# Altium schematic symbol library Microver.SchLib: 988 symbols (part 9 of 17)
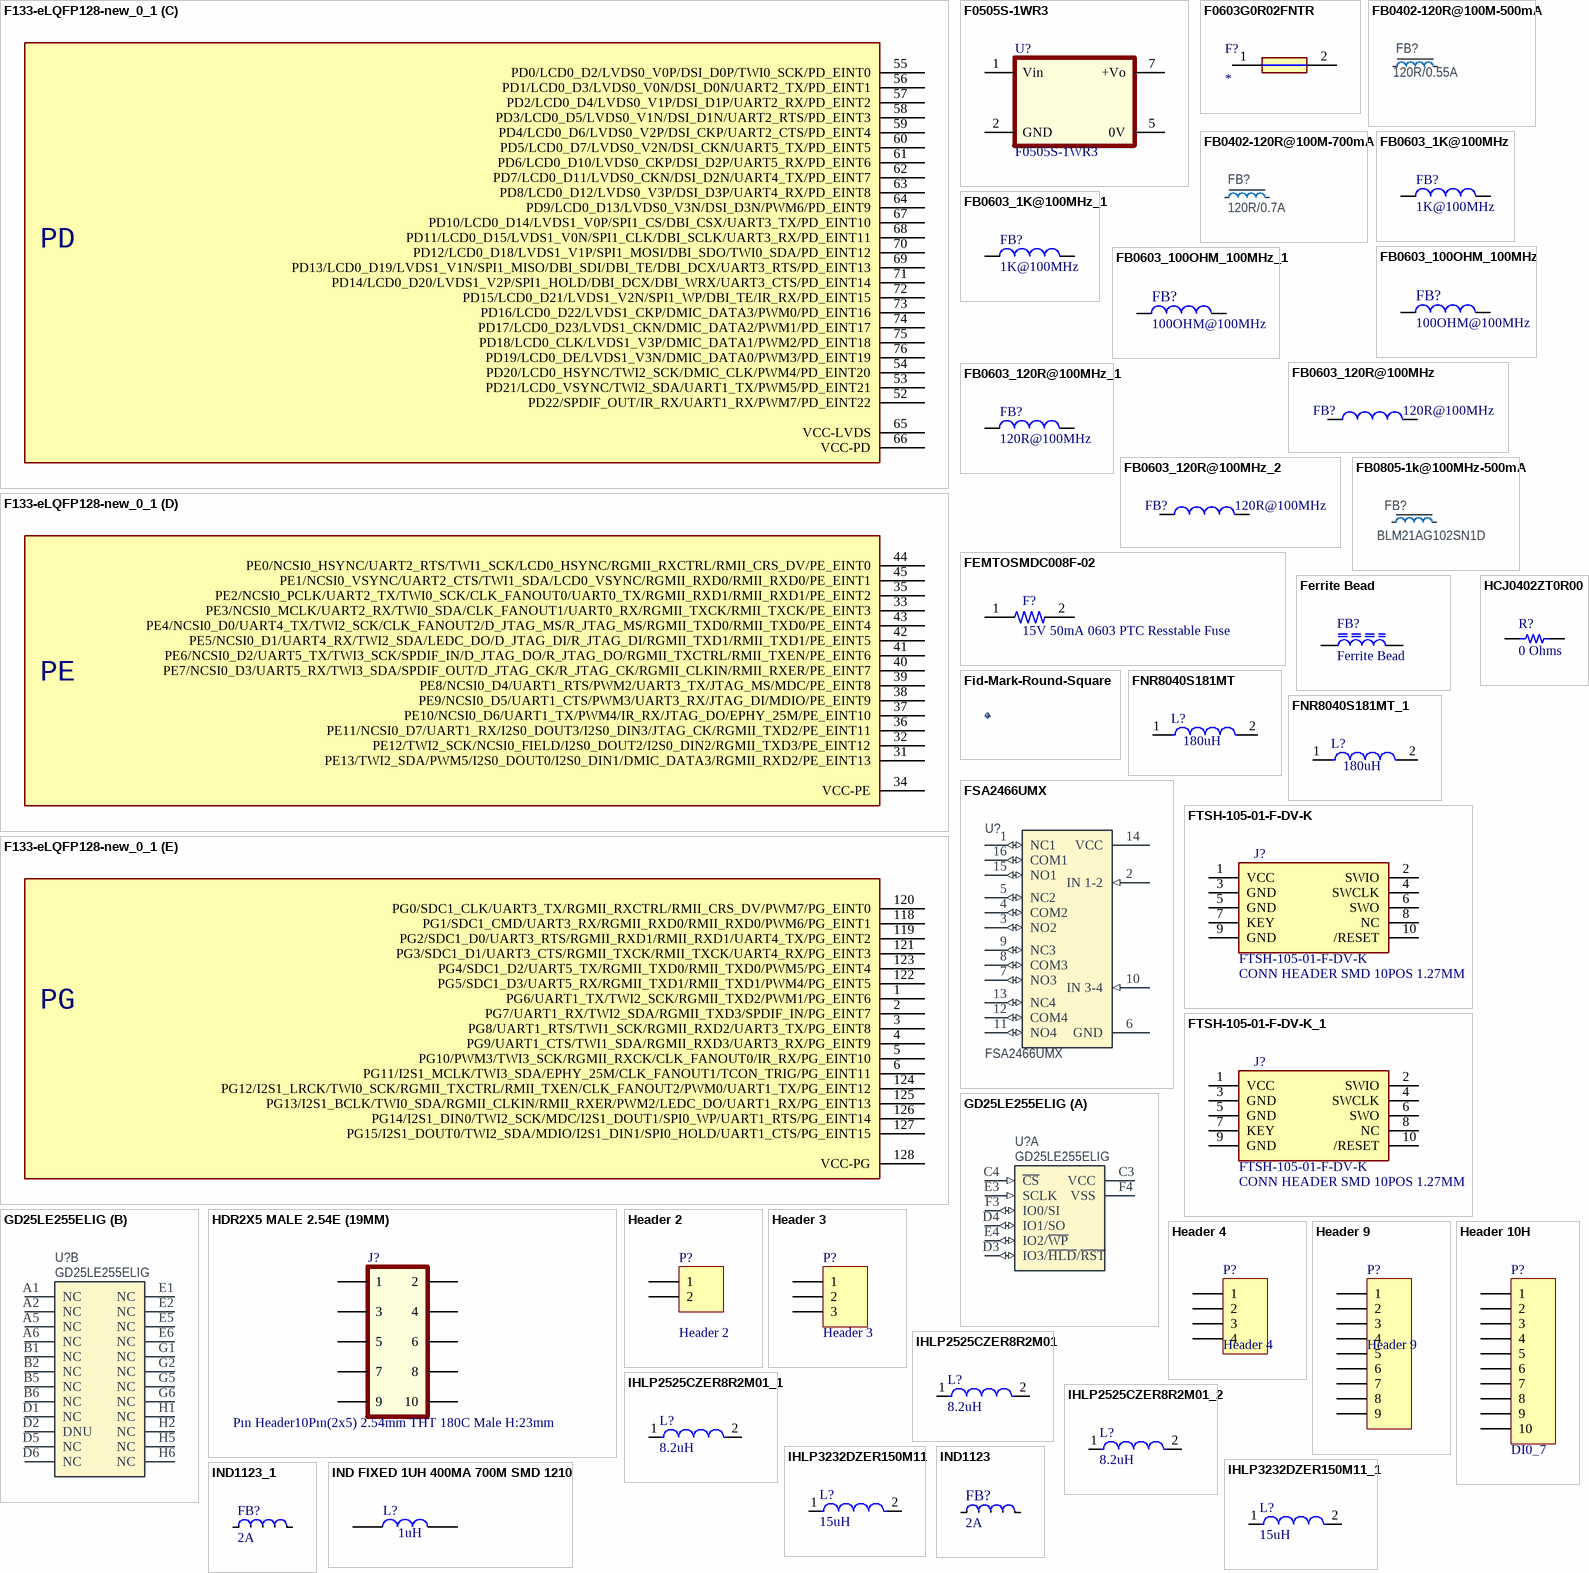
[diagram p37: symbols F133-eLQFP128-new_0_1 to IND FIXED 1UH 400MA 700M SMD 1210]

## Fid-Mark-Round-Square
designator Fid?, comment Fiducial mark  (value not drawn)
Part Number: Fid-Mark-Round-Square; Manufacturer: N.A.; Part number NEMS: 100500075; Value: N.A.; Pad Count: 1; Component Status: Active; System: Connector; Manufacturer Part Number: N.A.; LatestRevisionDate: 2017-01-30; Published: 2009-12-12; Note: N.A.; Artikkelnr Noca: N.A.; Footprint Doc: Fiducial; Part number IPS: N.A.; ComponentLink1URL: N.A.; ComponentLink1Description: Datasheet; ComponentLink2URL: N.A.; ComponentLink2Description: Supplier link; HelpURL: N.A.; Supplier 1: N.A.; Supplier Part Number 1: N.A.; Supplier 2: N.A.; Supplier Part Number 2: N.A.; Author: rsk; Component Class: Connectors; PartId: 100500075; Part number Norautron: N.A.
footprint Fiducial_Round-Square

## FNR8040S181MT
designator L?, comment value 180uH  (hidden comment: 830mA 180uH ±20% SMD,8x8mm Power Inductors ROHS)
Manufacturer Part Number: FNR8040S181MT; Order Code: LCSC: C168147; LCSC Manufacturer Part Number: FNR8040S181MT; LCSC Part Number: C168147
footprint IND-SMD_L8.0-W8.0
pins: 1, 2

## FNR8040S181MT_1
designator L?, comment value 180uH  (hidden comment: 830mA 180uH ±20% SMD,8x8mm Power Inductors ROHS)
Manufacturer Part Number: FNR8040S181MT; Order Code: LCSC: C168147; LCSC Manufacturer Part Number: FNR8040S181MT; LCSC Part Number: C168147
footprint IND-SMD_L8.0-W8.0
pins: 1, 2

## FSA2466UMX
designator U?
Data / Audio Low-Voltage Dual DPDT Analog Switch; Manufacturer: ON Semiconductor; Part number IPS: 00000009986; Part number Norautron: 26500608; Part number NEMS: 101900422; Note: N.A.; Artikkelnr Noca: 15070069; Pad Count: 16; Component Status: Active; Part Number: FSA2466UMX; Manufacturer Part Number: FSA2466UMX; ComponentLink1URL: N.A.; ComponentLink1Description: Datasheet; ComponentLink2URL: N.A.; ComponentLink2Description: Supplier link; HelpURL: https://www.onsemi.com/pub/Collateral/FSA2466-D.PDF; Footprint Doc: UFQFN-16; LatestRevisionDate: 2019-05-15; Published: 2016-05-18; Value: FSA2466UMX; Supplier 1: Digi-Key; Supplier Part Number 1: FSA2466UMXCT-ND; Supplier 2: Mouser; Supplier Part Number 2: 512-FSA2466UMX; Component Class: Misc_ICs; PartId: 101900422; Author: rsk
footprint XQFN40P180X260X50-16N
pins: 1 NC1 (io), 2 IN 1-2 (in), 3 NO2 (io), 4 COM2 (io), 5 NC2 (io), 6 GND (power), 7 NO3 (io), 8 COM3 (io), 9 NC3 (io), 10 IN 3-4 (in), 11 NO4 (io), 12 COM4 (io), 13 NC4 (io), 14 VCC (power), 15 NO1 (io), 16 COM1 (io)
1 alternate drawing of the same symbol

## FTSH-105-01-F-DV-K
designator J?, comment CONN HEADER SMD 10POS 1.27MM  Manufacturer Part Number: FTSH-105-01-F-DV-K
Connector Header Surface Mount 10 position 0.050" (1.27mm); Order Code: DIGI: SAM8796-ND
footprint Samtec_0_MFG
pins: 1 VCC, 2 SWIO, 3 GND, 4 SWCLK, 5 GND, 6 SWO, 7 KEY, 8 NC, 9 GND, 10 /RESET

## FTSH-105-01-F-DV-K_1
designator J?, comment CONN HEADER SMD 10POS 1.27MM  Manufacturer Part Number: FTSH-105-01-F-DV-K
Connector Header Surface Mount 10 position 0.050" (1.27mm); Order Code: DIGI: SAM8796-ND
footprint Samtec_0_MFG
pins: 1 VCC, 2 SWIO, 3 GND, 4 SWCLK, 5 GND, 6 SWO, 7 KEY, 8 NC, 9 GND, 10 /RESET

## GD25LE255ELIG
designator U?
Quad Serial Flash, 256Mbit, 133MHz, 1.65V - 2.0V; Manufacturer: GigaDevice; Part number NEMS: 101900759; Note: N.A.; Pad Count: 32; Component Status: Active; Part Number: GD25LE255ELIG; Manufacturer Part Number: GD25LE255ELIG; Footprint Doc: 32-WLSCP; LatestRevisionDate: 2023-01-11; Published: 2023-01-11; Value: GD25LE255ELIG; Artikkelnr Noca: N.A.; Part number IPS: N.A.; ComponentLink1URL: https://www.gigadevice.com/datasheet/gd25le255e/; ComponentLink1Description: Datasheet; ComponentLink2URL: https://no.mouser.com/ProductDetail/GigaDevice/GD25LE255ELIGR?qs=81r%252BiQLm7BRinJH1OgrMdw%3D%3D; ComponentLink2Description: Supplier link; HelpURL: https://www.gigadevice.com/flash-memory/gd25le255e/; Author: rubr; Component Class: Misc_ICs; Part number Norautron: N.A.; PartId: 101900759
footprint BGA32C50P6X8_350X400
part A pins: C3 VCC (power), C4 ~{CS} (in), D3 IO3/~{HLD}/~{RST} (io), D4 IO1/SO (io), E3 SCLK (in), E4 IO2/~{WP} (io), F3 IO0/SI (io), F4 VSS (power)
part B pins: A1 NC, A2 NC, A5 NC, A6 NC, B1 NC, B2 NC, B5 NC, B6 NC, D1 NC, D2 DNU, D5 NC, D6 NC, E1 NC, E2 NC, E5 NC, E6 NC, G1 NC, G2 NC, G5 NC, G6 NC, H1 NC, H2 NC, H5 NC, H6 NC

## HCJ0402ZT0R00
designator R?, comment 0 Ohms
RES 0 OHM JUMPER 1/8W 0402; Part Number: HCJ0402ZT0R00; Manufacturer: Stackpole Electronics Inc; Power (Watts): 0.125W, 1/8W; Value: 0 Ohms; ComponentLink1Description: Datasheet; ComponentLink1URL: https://www.seielect.com/catalog/sei-hcj.pdf; ComponentLink2Description: DigiKey Link; ComponentLink2URL: https://www.digikey.com/en/products/detail/stackpole-electronics-inc/HCJ0402ZT0R00/4357659; Composition: Metal Foil; Device Package: 0402 (1005 Metric); Features: Automotive AEC-Q200; Height - Seated (Max): 0.018" (0.45mm); LastUpdated: 2/9/2024 8:29:49 PM; Lifecycle Status: Active; Minimum Order: 1; Number of Terminations: 2; Operating Temperature: -55°C ~ 155°C; Package / Case: 0402 (1005 Metric); Packaging: TapeAndReel; PartId: 12327; Part Status: Active; Price: 0.07; Ratings: AEC-Q200; Resistance: 0 Ohms; Series: HCJ; Size / Dimension: 0.039" L x 0.020" W (1.00mm x 0.50mm); Supplier 1: DigiKey; Supplier Part Number 1: HCJ0402ZT0R00CT-ND; Supplier Device Package: 0402; Tolerance: Jumper
footprint RES 0402_1005
pins: 1, 2

## HDR2X5 MALE 2.54E (19MM)
designator J?, comment Pın Header10Pın(2x5) 2.54mm THT 180C Male H:23mm
HEADER MALE 2X5POS 2.54MM.PITCH 19MM.HEIGTH; Manufacturer: NA; Code: 3050223; Value: HDR2X5 MALE 2.54E (19MM); Family: HDR; Manufacturer Part Name: Pın Header10Pın(2x5) 2.54mm THT 180C Male H:23mm; Supplier: Piyasa; Supplier No: NA
footprint HDR2X5 M 2.54E 15MMH
pins: 1, 2, 3, 4, 5, 6, 7, 8, 9, 10

## Header 2
designator P?
Header, 2-Pin; LatestRevisionDate: 17-Jul-2002; LatestRevisionNote: Re-released for DXP Platform.; Publisher: Altium Limited
signal-integrity model Connector
footprint MATEK-H7A3-2-Pin-SMT
pins: 1, 2

## Header 3
designator P?
Header, 3-Pin; LatestRevisionDate: 17-Jul-2002; LatestRevisionNote: Re-released for DXP Platform.; Publisher: Altium Limited
footprint HDR1X3 (Connector; Header; 3 Position)
signal-integrity model Connector
footprint MATEK-H7A3-3-Pin-SMT
pins: 1, 2, 3

## Header 4
designator P?
Header, 4-Pin; LatestRevisionDate: 17-Jul-2002; LatestRevisionNote: Re-released for DXP Platform.; Publisher: Altium Limited
signal-integrity model Connector
footprint MATEK-H7A3-4-Pin-SMT
footprint MATEK-H7A3-4-Pin-SMT-ARC
pins: 1, 2, 3, 4

## Header 9
designator P?
Header, 9-Pin; LatestRevisionDate: 17-Jul-2002; LatestRevisionNote: Re-released for DXP Platform.; Publisher: Altium Limited
footprint HDR1X3 (Connector; Header; 3 Position)
signal-integrity model Connector
footprint MATEK-H7A3-9-Pin-SMT
pins: 1, 2, 3, 4, 5, 6, 7, 8, 9

## Header 10H
designator P?, comment DI0_7
Header, 10-Pin, Right Angle; Supplier 1: OZDISAN; Supplier Part Number 1: LZIR-3.81-10POS
footprint MC 1,5/10-G-3,81
signal-integrity model Connector
footprint MATEKSYS-H7A3-10-Pin
footprint MATEKSYS-H7A3-10-Pin - SMT
pins: 1, 2, 3, 4, 5, 6, 7, 8, 9, 10

## IHLP2525CZER8R2M01
designator L?, comment value 8.2uH  (hidden comment: FIXED IND 8.2UH 4A 68 MOHM SMD)
8.2 µH Shielded Molded Inductor 4 A 68mOhm Max Nonstandard; Manufacturer Part Number: IHLP2525CZER8R2M01; Order Code: Digi: 541-1012-2-ND; LCSC Manufacturer Part Number: IHLP2525CZER8R2M01; LCSC Part Number: C506576
footprint Vishay_IHLP-2525CZ-FP_2_413x3_429-3D_3_0_MFG
pins: 1, 2

## IHLP2525CZER8R2M01_1
designator L?, comment value 8.2uH  (hidden comment: FIXED IND 8.2UH 4A 68 MOHM SMD)
8.2 µH Shielded Molded Inductor 4 A 68mOhm Max Nonstandard; Manufacturer Part Number: IHLP2525CZER8R2M01; Order Code: Digi: 541-1012-2-ND; LCSC Manufacturer Part Number: IHLP2525CZER8R2M01; LCSC Part Number: C506576
footprint Vishay_IHLP-2525CZ-FP_2_413x3_429-3D_3_0_MFG
pins: 1, 2

## IHLP2525CZER8R2M01_2
designator L?, comment value 8.2uH  (hidden comment: FIXED IND 8.2UH 4A 68 MOHM SMD)
8.2 µH Shielded Molded Inductor 4 A 68mOhm Max Nonstandard; Manufacturer Part Number: IHLP2525CZER8R2M01; Order Code: Digi: 541-1012-2-ND; LCSC Manufacturer Part Number: IHLP2525CZER8R2M01; LCSC Part Number: C506576
footprint Vishay_IHLP-2525CZ-FP_2_413x3_429-3D_3_0_MFG
pins: 1, 2

## IHLP3232DZER150M11
designator L?, comment value 15uH  (hidden comment: 15 µH Shielded Molded Inductor 4.9 A 65.3mOhm Max Nonstandard)
Manufacturer Part Number: IHLP3232DZER150M11; Order Code: Digi: 541-1347-2-ND; LCSC Manufacturer Part Number: IHLP3232DZER150M11; LCSC Part Number: C845050
footprint Vishay_IHLP-3232DZ-FP_2_413x5_334-3D_4_0_MFG
pins: 1, 2

## IHLP3232DZER150M11_1
designator L?, comment value 15uH  (hidden comment: 15 µH Shielded Molded Inductor 4.9 A 65.3mOhm Max Nonstandard)
Manufacturer Part Number: IHLP3232DZER150M11; Order Code: Digi: 541-1347-2-ND; LCSC Manufacturer Part Number: IHLP3232DZER150M11; LCSC Part Number: C845050
footprint Vishay_IHLP-3232DZ-FP_2_413x5_334-3D_4_0_MFG
pins: 1, 2

## IND1123
designator FB?, comment 2A
FERRITE BEAD 100 OHM 0603 1LN; Manufacturer: TDK; Manufacturer Part Number: MPZ1608Y101BTA00; Tolerance: 25%; Impedance: 100R; DC Resistance (DCR): 40mR; ComponentLink1URL: https://chn-vm-apps.microchip.com/mchprepo/parts/Datasheets/beads_commercial_power_mpz_en.pdf; ComponentLink1Description: Datasheet; Supplier 1: Digi-Key; Supplier Part Number 1: 445-2984-1-ND; RoHS: Yes; Category: Ferrite Beads and Chips; Stock 1: 551; Pricing 1: 1=0,10000, 10=0,07200, 25=0,06480, 50=0,05840, 100=0,04290, 250=0,03120, 500=0,02860, 1000=0,02470 (USD); Mount: Surface Mount; Case/Package: 0603; Case Code (Metric): 1608; Case Code (Imperial): 0603; Core Material: Ferrite; Packaging: Tape and Reel; Package Quantity: 4000; Max DC Current: 2A; Current Rating: 2A; Series: MPZ; Length: 0.063inch; Width: 0.031inch; Height: 0.037inch; RoHS Compliant: Yes; REACH SVHC: No SVHC; ComponentLink2URL: https://datasheet.ciiva.com/46634/beads-commercial-power-mpz-en-46634677.pdf?src-supplier=Digi-Key; ComponentLink2Description: https://datasheet.ciiva.com/46634/beads-commercial-power-mpz-en-46634677.pdf?src-supplier=Digi-Key; ComponentLink3URL: https://datasheet.ciiva.com/48682/beads-commercial-power-mpz-en-48682501.pdf?src-supplier=Avnet; ComponentLink3Description: https://datasheet.ciiva.com/48682/beads-commercial-power-mpz-en-48682501.pdf?src-supplier=Avnet; ComponentLink4URL: https://datasheet.ciiva.com/46634/beads-commercial-power-mpz-en-46634684.pdf?src-supplier=Digi-Key; ComponentLink4Description: https://datasheet.ciiva.com/46634/beads-commercial-power-mpz-en-46634684.pdf?src-supplier=Digi-Key; ComponentLink5URL: https://datasheet.ciiva.com/46634/beads-commercial-power-mpz-en-46634621.pdf?src-supplier=Digi-Key; ComponentLink5Description: https://datasheet.ciiva.com/46634/beads-commercial-power-mpz-en-46634621.pdf?src-supplier=Digi-Key
footprint IND_C_0603 (Chip Inductor 2-Leads, Body 1.6x0.8mm, IPC Medium Density)
pins: 1 S, 2 F
2 alternate drawings of the same symbol

## IND1123_1
designator FB?, comment Current Rating: 2A  (hidden comment: Inductor)
FERRITE BEAD 100 OHM 0603 1LN; Manufacturer: TDK; Manufacturer Part Number: MPZ1608Y101BTA00; Tolerance: 25%; Impedance: 100R; DC Resistance (DCR): 40mR; ComponentLink1URL: https://chn-vm-apps.microchip.com/mchprepo/parts/Datasheets/beads_commercial_power_mpz_en.pdf; ComponentLink1Description: Datasheet; Supplier 1: Digi-Key; Supplier Part Number 1: 445-2984-1-ND; RoHS: Yes; Category: Ferrite Beads and Chips; Stock 1: 551; Pricing 1: 1=0,10000, 10=0,07200, 25=0,06480, 50=0,05840, 100=0,04290, 250=0,03120, 500=0,02860, 1000=0,02470 (USD); Mount: Surface Mount; Case/Package: 0603; Core Material: Ferrite; Case Code (Metric): 1608; Case Code (Imperial): 0603; Packaging: Tape and Reel; Package Quantity: 4000; Max DC Current: 2A; Series: MPZ; Length: 0.063inch; Width: 0.031inch; Height: 0.037inch; REACH SVHC: No SVHC; RoHS Compliant: Yes; ComponentLink2URL: https://datasheet.ciiva.com/46634/beads-commercial-power-mpz-en-46634677.pdf?src-supplier=Digi-Key; ComponentLink2Description: https://datasheet.ciiva.com/46634/beads-commercial-power-mpz-en-46634677.pdf?src-supplier=Digi-Key; ComponentLink3URL: https://datasheet.ciiva.com/48682/beads-commercial-power-mpz-en-48682501.pdf?src-supplier=Avnet; ComponentLink3Description: https://datasheet.ciiva.com/48682/beads-commercial-power-mpz-en-48682501.pdf?src-supplier=Avnet; ComponentLink4URL: https://datasheet.ciiva.com/46634/beads-commercial-power-mpz-en-46634684.pdf?src-supplier=Digi-Key; ComponentLink4Description: https://datasheet.ciiva.com/46634/beads-commercial-power-mpz-en-46634684.pdf?src-supplier=Digi-Key; ComponentLink5URL: https://datasheet.ciiva.com/46634/beads-commercial-power-mpz-en-46634621.pdf?src-supplier=Digi-Key; ComponentLink5Description: https://datasheet.ciiva.com/46634/beads-commercial-power-mpz-en-46634621.pdf?src-supplier=Digi-Key
footprint IND_C_0603 (Chip Inductor 2-Leads, Body 1.6x0.8mm, IPC Medium Density)
pins: 1 S, 2 F
2 alternate drawings of the same symbol

## IND FIXED 1UH 400MA 700M SMD 1210
designator L?, comment 1uH
SIGNAL LINE IND, 1UH,400MA,5%,120MHz, FULL REEL; Product Range:NLV Series; Inductance:1 H; Inductance Tolerance: 5%; High Frequency Inductor Case:1210 [3225 Metric]; Self Resonant Frequency Min:120MHz; DC Resistance Max:0.7ohm ;RoHS Compliant: Yes; Manufacturer: TDK; Manufacturer Part Number: NLV32T-1R0J-PF; Core Material: Ferrite; DC Resistance (DCR): 700mR; Shielding: Unshielded; Test Frequency: 7.96MHz; Q Factor: 30; Supplier 1: Digi-Key; Supplier Part Number 1: 445-1517-1-ND; RoHS: Yes; Category: Fixed Inductors; Stock 1: 174; Pricing 1: 1=0,25000, 10=0,22600, 25=0,19800, 50=0,16980, 100=0,15560, 250=0,14148, 500=0,13300, 1000=0,10187 (USD); Mount: Surface Mount; Case/Package: 1210; Number of Pins: 2; Case Code (Metric): 3225; Case Code (Imperial): 1210; Min Operating Temperature: -40°C; Max Operating Temperature: 105°C; Tolerance: 5%; Inductance: 1uH; Packaging: Tape and Reel; Self Resonant Frequency: 120MHz; Current Rating: 400mA; Max DC Current: 400mA; Package Quantity: 2000; Termination: SMD/SMT; DC Current: 400mA; Series: NLV; Rated Current-Max: 400mA; Length: 3.2mm; Width: 0.079inch; Height: 2.2mm; Depth: 2.7mm; Radiation Hardening: No; RoHS Compliant: Yes; REACH SVHC: No SVHC; Military Standard: Not; Lead Free: Lead Free; ComponentLink1URL: https://datasheet.ciiva.com/36526/1871633-36526065.pdf?src-supplier=Jameco; ComponentLink1Description: https://datasheet.ciiva.com/36526/1871633-36526065.pdf?src-supplier=Jameco; ComponentLink2URL: https://datasheet.ciiva.com/11802/0900766b80814a78-11802198.pdf?src-supplier=RSComponents; ComponentLink2Description: https://datasheet.ciiva.com/11802/0900766b80814a78-11802198.pdf?src-supplier=RSComponents; ComponentLink3URL: https://datasheet.ciiva.com/15160/getdatasheetpartid-127957-15160442.pdf?src-supplier=Verical; ComponentLink3Description: https://datasheet.ciiva.com/15160/getdatasheetpartid-127957-15160442.pdf?src-supplier=Verical; ComponentLink4URL: https://datasheet.ciiva.com/3082/e511-nl-3082240.pdf?src-supplier=Avnet; ComponentLink4Description: https://datasheet.ciiva.com/3082/e511-nl-3082240.pdf?src-supplier=Avnet; ComponentLink5URL: https://datasheet.ciiva.com/28479/1929012-28479734.pdf?src-supplier=Element14; ComponentLink5Description: https://datasheet.ciiva.com/28479/1929012-28479734.pdf?src-supplier=Element14; ComponentLink6URL: https://datasheet.ciiva.com/1042/e511-nl-1042327.pdf?src-supplier=Digi-Key; ComponentLink6Description: https://datasheet.ciiva.com/1042/e511-nl-1042327.pdf?src-supplier=Digi-Key; ComponentLink7URL: https://datasheet.ciiva.com/1042/e511-nl-1042328.pdf?src-supplier=Digi-Key; ComponentLink7Description: https://datasheet.ciiva.com/1042/e511-nl-1042328.pdf?src-supplier=Digi-Key; ComponentLink8URL: https://datasheet.ciiva.com/1042/e511-nl-1042329.pdf?src-supplier=Digi-Key; ComponentLink8Description: https://datasheet.ciiva.com/1042/e511-nl-1042329.pdf?src-supplier=Digi-Key; ComponentLink9URL: https://datasheet.ciiva.com/16209/inductor-commercial-standard-nlv-en-16209578.pdf?src-supplier=Future+Electronics; ComponentLink9Description: https://datasheet.ciiva.com/16209/inductor-commercial-standard-nlv-en-16209578.pdf?src-supplier=Future+Electronics; ComponentLink10URL: https://datasheet.ciiva.com/30155/print-detail-pdf-phplangenpart-nonlv32t-1r0j-pfnreimp-unit-xmhzim-30155739.pdf?src-supplier=Onlinecomponents.com; ComponentLink10Description: https://datasheet.ciiva.com/30155/print-detail-pdf-phplangenpart-nonlv32t-1r0j-pfnreimp-unit-xmhzim-30155739.pdf?src-supplier=Onlinecomponents.com; ComponentLink11URL: https://datasheet.ciiva.com/46385/e511-nl-46385197.pdf?src-supplier=Element14; ComponentLink11Description: https://datasheet.ciiva.com/46385/e511-nl-46385197.pdf?src-supplier=Element14; ComponentLink12URL: https://datasheet.ciiva.com/8045/73621-8045615.pdf?src-supplier=Element14; ComponentLink12Description: https://datasheet.ciiva.com/8045/73621-8045615.pdf?src-supplier=Element14
footprint F1210N (Chip Inductor, Body 3.2x2.5mm, IPC Medium Density)
pins: 1, 2

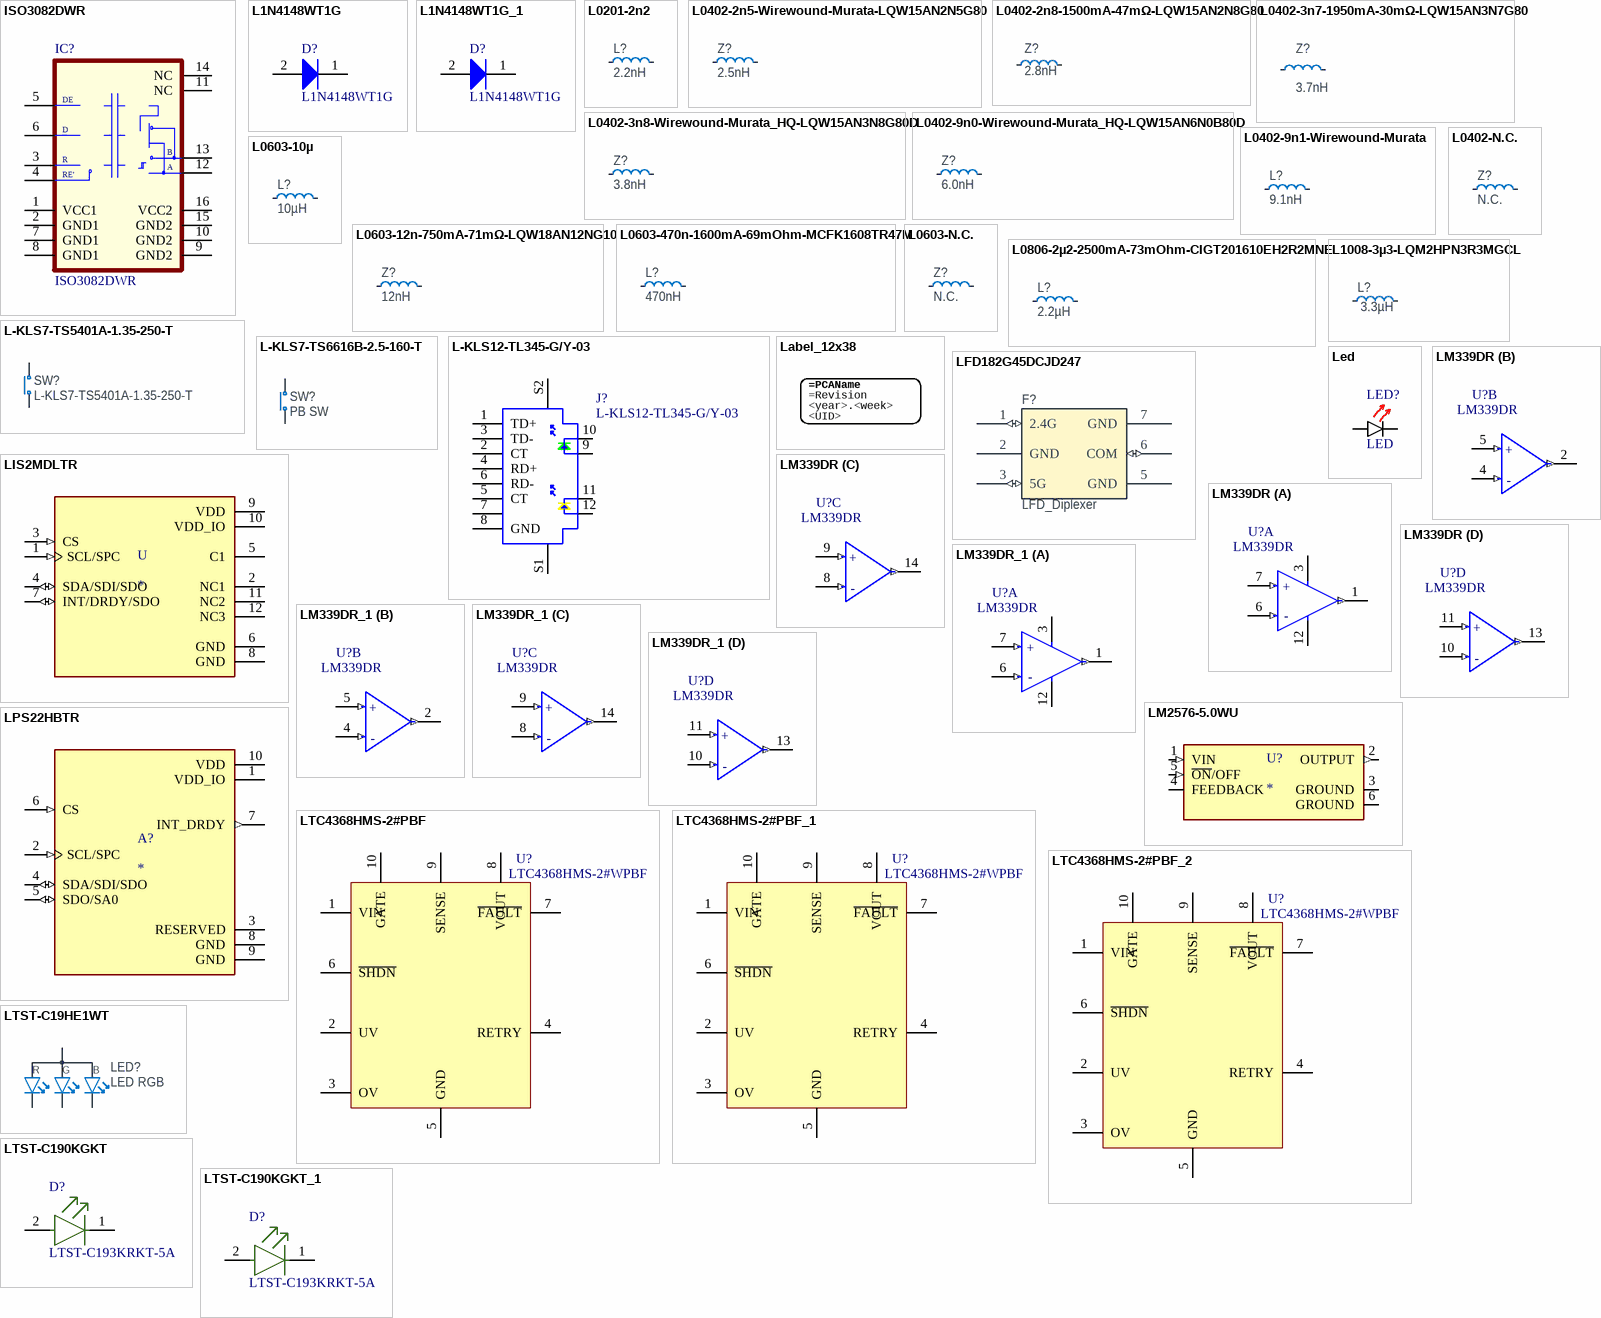
[diagram p15: symbols ISO3082DWR to LTST-C190KGKT_1]

## ISO3082DWR
designator IC?
IC TXRX ISO ISO3082DWR RS422/485 2.5KV 3CH 200KBPS 16SOIC; Manufacturer: TEXAS; Code: 3000004; Family: IC; Manufacturer Part Name: ISO3082DWR; Supplier: Digikey; Supplier No: 296-37891-6-ND; Package Reference: 16-SOIC; Value: ISO3082DWR
footprint SOIC127P1030-16N (SOIC, 16-Leads, Body 10.3x7.5mm, Pitch 1.27mm, IPC Medium Density)
footprint Model Name (Footprint not found)
pins: 1 VCC1 (power), 2 GND1 (power), 3 R, 4 ~{RE}, 5 DE, 6 D, 7 GND1 (power), 8 GND1 (power), 9 GND2 (power), 10 GND2 (power), 11 NC, 12 A, 13 B, 14 NC, 15 GND2 (power), 16 VCC2 (power)
text: RE'

## L1N4148WT1G
designator D?, comment Manufacturer Part Number: L1N4148WT1G  (hidden comment: 100V 425mW Single 1.25V 4ns 200mA SOD-123 Switching Diode ROHS)
Order Code: LCSC: C78089; LCSC Manufacturer Part Number: L1N4148WT1G; LCSC Part Number: C78089
footprint SOD-123_L2.8-W1.8-LS3.7-RD
pins: 1 K, 2 A

## L1N4148WT1G_1
designator D?, comment Manufacturer Part Number: L1N4148WT1G  (hidden comment: 100V 425mW Single 1.25V 4ns 200mA SOD-123 Switching Diode ROHS)
Order Code: LCSC: C78089; LCSC Manufacturer Part Number: L1N4148WT1G; LCSC Part Number: C78089
footprint SOD-123_L2.8-W1.8-LS3.7-RD
pins: 1 K, 2 A

## L0201-2n2
designator L?, comment 2.2nH
Chip Inductor; Part Number: L0201-2n2; Part number NEMS: 100300017; Pad Count: 2; Artikkelnr Noca: N.A.; Note: High frequency chip inductor ±5%; Component Status: Active; Footprint Doc: 0201; Value: 2.2nH; Component Class: Inductors; Author: rsk; ComponentLink1Description: Datasheet; ComponentLink1URL: N.A.; ComponentLink2Description: Supplier link; ComponentLink2URL: N.A.; HelpURL: N.A.; LatestRevisionDate: 2013-04-10; Manufacturer: N.A.; Manufacturer Part Number: N.A.; PartId: 100300017; Part number IPS: N.A.; Part number Norautron: N.A.; Published: 2013-04-10; Supplier 1: N.A.; Supplier 2: N.A.; Supplier Part Number 1: N.A.; Supplier Part Number 2: N.A.
footprint INDC0603X03L_C
pins: 1, 2

## L0402-2n5-Wirewound-Murata-LQW15AN2N5G80
designator Z?, comment 2.5nH
Inductor, 2100mA, ±2%, 30mΩ, Q=30; Part Number: L0402-2n5-Wirewound-Murata-LQW15AN2N5G80; Manufacturer: Murata; Manufacturer Part Number: LQW15AN2N5G80D; Part number NEMS: 100300417; Pad Count: 2; Note: -55°C ~ 125°C; Artikkelnr Noca: N.A.; Component Status: Active; Component Class: Inductors; Author: masi; ComponentLink1URL: https://www.murata.com/products/productdetail?partno=LQW15AN2N5G80%23; ComponentLink1Description: Datasheet; ComponentLink2URL: N.A.; ComponentLink2Description: Supplier link; HelpURL: https://search.murata.co.jp/Ceramy/image/img/P02/JELF243A-0100.pdf; Footprint Doc: 0402; LatestRevisionDate: 2022-08-18; Published: 2022-08-18; Value: 2.5nH; Supplier 1: Digi-Key; Supplier Part Number 1: LQW15AN2N5G80D-ND; Supplier 2: Mouser; Supplier Part Number 2: 81-LQW15AN2N5G80D; Part number IPS: N.A.; Part number Norautron: N.A.; PartId: 100300417
footprint INDC1005X04L_WW
footprint C1608X06L-C1005X04M (Chip Capacitor, 2-Leads, Body 1.6x0.8mm, IPC High Density)
pins: 1, 2

## L0402-2n8-1500mA-47mΩ-LQW15AN2N8G80
designator Z?, comment 2.8nH
Inductor, 1500mA, ±2%, 47mΩ, Q=27; Part Number: L0402-2n8-1500mA-47mΩ-LQW15AN2N8G80; Manufacturer: Murata; Manufacturer Part Number: LQW15AN2N8G80D; Part number NEMS: 100300422; Component Status: Active; Pad Count: 2; Note: -55°C ~ 125°C; Artikkelnr Noca: N.A.; PartId: 100300422; Component Class: Inductors; Author: rubr; ComponentLink1URL: https://eu.mouser.com/datasheet/2/281/1/JELF243A_0100-1380931.pdf; ComponentLink1Description: Datasheet; ComponentLink2URL: https://eu.mouser.com/ProductDetail/Murata-Electronics/LQW15AN2N8G80D?qs=QzBtWTOodeVWFJcVhx7p6g%3D%3D; ComponentLink2Description: Supplier link; HelpURL: https://www.murata.com/en-us/products/productdetail?partno=LQW15AN2N8G80%23; LatestRevisionDate: 2022-12-16; Published: 2022-12-16; Footprint Doc: 0402; Value: 2.8nH; Supplier 1: Mouser; Supplier Part Number 1: 81-LQW15AN2N8G80D; Supplier 2: N.A.; Supplier Part Number 2: N.A.; Part number IPS: N.A.; Part number Norautron: N.A.
footprint INDC1005X04L_WW
footprint C1608X06L-C1005X04M (Chip Capacitor, 2-Leads, Body 1.6x0.8mm, IPC High Density)
pins: 1, 2

## L0402-3n7-1950mA-30mΩ-LQW15AN3N7G80
designator Z?, comment 3.7nH
Inductor, 1950mA, ±2%, 30mΩ, Q=35; Part Number: L0402-3n7-1950mA-30mΩ-LQW15AN3N7G80; Manufacturer: Murata; Manufacturer Part Number: LQW15AN3N7G80D; Part number NEMS: 100300421; Pad Count: 2; Note: -55°C ~ 125°C; Artikkelnr Noca: N.A.; Component Status: Active; Component Class: Inductors; Author: rubr; ComponentLink1URL: https://eu.mouser.com/datasheet/2/281/1/JELF243A_0100-1380931.pdf; ComponentLink1Description: Datasheet; ComponentLink2URL: https://eu.mouser.com/ProductDetail/Murata-Electronics/LQW15AN3N7G80D?qs=QzBtWTOodeVvBMR8fc6sWg%3D%3D; ComponentLink2Description: Supplier link; HelpURL: https://www.murata.com/en-us/products/productdetail?partno=LQW15AN3N7G80%23; Footprint Doc: 0402; LatestRevisionDate: 2022-12-16; Published: 2022-12-16; Value: 3.7nH; Supplier 1: Mouser; Supplier Part Number 1: 81-LQW15AN3N7G80D; Supplier 2: N.A.; Supplier Part Number 2: N.A.; Part number IPS: N.A.; Part number Norautron: N.A.; PartId: 100300421
footprint INDC1005X04L_WW
footprint C1608X06L-C1005X04M
pins: 1, 2

## L0402-3n8-Wirewound-Murata_HQ-LQW15AN3N8G80D
designator Z?, comment 3.8nH
3.8 nH Unshielded Drum Core, Wirewound Inductor 1.95 A 30mOhm Max 0402 (1005 Metric); Part Number: L0402-3n8-Wirewound-Murata_HQ-LQW15AN3N8G80D; Manufacturer: Murata; Manufacturer Part Number: LQW15AN3N8G80D; Part number NEMS: 100300486; Pad Count: 2; Note: -55°C ~ 125°C; Artikkelnr Noca: N.A.; Component Status: Active; Component Class: Inductors; Author: getr; ComponentLink1URL: https://search.murata.co.jp/Ceramy/image/img/P02/JELF243A-0100.pdf; ComponentLink1Description: Datasheet; ComponentLink2URL: https://www.digikey.no/en/products/detail/murata-electronics/LQW15AN3N8G80D/10699152?s=N4IgTCBcDaIDYEcDuBGArAQwHYGYsA4BxfABhAF0BfIA; ComponentLink2Description: Supplier link; HelpURL: https://www.murata.com/en-eu/products/productdetail?partno=LQW15AN3N8G80%23; Footprint Doc: 0402; LatestRevisionDate: 2023-10-30; Published: 2023-10-30; Value: 3.8nH; Supplier 1: Digi-Key; Supplier Part Number 1: 490-LQW15AN3N8G80DTR-ND; Supplier 2: N.A.; Supplier Part Number 2: N.A.; Part number IPS: N.A.; Part number Norautron: N.A.; PartId: 100300486
footprint INDC1005X04L_WW
footprint C1608X06L-C1005X04M (Chip Capacitor, 2-Leads, Body 1.6x0.8mm, IPC High Density)
pins: 1, 2

## L0402-9n0-Wirewound-Murata_HQ-LQW15AN6N0B80D
designator Z?, comment 6.0nH
6 nH Unshielded Drum Core, Wirewound Inductor 1.6 A 56mOhm Max 0402 (1005 Metric); Part Number: L0402-9n0-Wirewound-Murata_HQ-LQW15AN6N0B80D; Manufacturer: Murata; Manufacturer Part Number: LQW15AN6N0B80D; Part number NEMS: 100300487; Pad Count: 2; Note: -55°C ~ 125°C; Artikkelnr Noca: N.A.; Component Status: Active; Component Class: Inductors; Author: getr; ComponentLink1URL: https://search.murata.co.jp/Ceramy/image/img/P02/JELF243A-0100.pdf; ComponentLink1Description: Datasheet; ComponentLink2URL: https://www.digikey.no/en/products/detail/murata-electronics/LQW15AN6N0B80D/4905956?s=N4IgTCBcDaIDYEcDuBGArAQwHYDYsAYAjADnxAF0BfIA; ComponentLink2Description: Supplier link; HelpURL: https://www.murata.com/en-eu/products/productdetail?partno=LQW15AN6N0B80%23; Footprint Doc: 0402; LatestRevisionDate: 2023-10-30; Published: 2023-10-30; Value: 6.0nH; Supplier 1: Digi-Key; Supplier Part Number 1: 490-17896-1-ND; Supplier 2: N.A.; Supplier Part Number 2: N.A.; Part number IPS: N.A.; Part number Norautron: N.A.; PartId: 100300487
footprint INDC1005X04L_WW
footprint C1608X06L-C1005X04M (Chip Capacitor, 2-Leads, Body 1.6x0.8mm, IPC High Density)
pins: 1, 2

## L0402-9n1-Wirewound-Murata
designator L?, comment 9.1nH
Inductor, 540mA, ±2%, 140mΩ, Q=25; Part Number: L0402-9n1-Wirewound-Murata; Manufacturer: Murata; Manufacturer Part Number: LQW15AN9N1G00; Part number IPS: 00000002497; Part number NEMS: 100300357; Note: -55°C ~ 125°C; Artikkelnr Noca: N.A.; Pad Count: 2; Component Status: Active; ComponentLink1URL: https://search.murata.co.jp/Ceramy/image/img/P02/JELF243A-0050.pdf; ComponentLink1Description: Datasheet; ComponentLink2URL: N.A.; ComponentLink2Description: Supplier link; HelpURL: https://psearch.en.murata.com/inductor/product/LQW15AN9N1G00%23.html; Footprint Doc: 0402; LatestRevisionDate: 2019-04-16; Published: 2019-04-16; Value: 9.1nH; Supplier 1: Digi-Key; Supplier Part Number 1: 490-6854-1-ND; Supplier 2: N.A.; Supplier Part Number 2: N.A.; PartId: 100300357; Component Class: Inductors; Author: rsk; Part number Norautron: N.A.
footprint INDC1005X04L_WW
pins: 1, 2

## L0402-N.C.
designator Z?, comment N.C.
Not mounted; Part Number: L0402-N.C.; Manufacturer: N.A.; Part number NEMS: 100300037; Pad Count: 2; Assembly: Not mounted; Component Status: Active; Component Class: Inductors; Author: rsk; Manufacturer Part Number: N.A.; ComponentLink1URL: N.A.; ComponentLink1Description: Datasheet; ComponentLink2URL: N.A.; ComponentLink2Description: Supplier link; HelpURL: N.A.; Footprint Doc: 0402; LatestRevisionDate: 2016-11-24; Published: 2016-11-24; Value: N.C.; Note: N.A.; Supplier 1: N.A.; Supplier Part Number 1: N.A.; Supplier 2: N.A.; Supplier Part Number 2: N.A.; Artikkelnr Noca: N.A.; Part number IPS: N.A.; Part number Norautron: N.A.; PartId: 100300037
footprint C1608X06L-C1005X04M
pins: 1, 2

## L0603-10µ
designator L?, comment 10µH
Inductor, 80mA, ±10%; Part Number: L0603-10µ; Manufacturer: Taiyo Yuden; Manufacturer Part Number: LBMF1608T100K; Part number IPS: 00000007794; Part number Norautron: N.A.; Part number NEMS: 100300078; Pad Count: 2; Artikkelnr Noca: 33029314; Note: LBMF1608T100K 10µH 80mA 0603; Component Status: Active; Value: 10µH; Footprint Doc: 0603; Component Class: Inductors; Author: rsk; ComponentLink1Description: Datasheet; ComponentLink1URL: N.A.; ComponentLink2Description: Supplier link; ComponentLink2URL: N.A.; HelpURL: http://www.yuden.co.jp/ut/product/pdf/elb2_e.pdf; LatestRevisionDate: 2012-09-19; PartId: 100300078; Published: 2010-02-24; Supplier 1: Digi-Key; Supplier 2: Farnell; Supplier Part Number 1: 587-1714-1-ND; Supplier Part Number 2: 178-6105
footprint INDC1608X06L
pins: 1, 2

## L0603-12n-750mA-71mΩ-LQW18AN12NG10
designator Z?, comment 12nH
Inductor, 750mA, ±2%, 71mΩ, Q=38; Part Number: L0603-12n-750mA-71mΩ-LQW18AN12NG10; Manufacturer: Murata; Manufacturer Part Number: LQW18AN12NG10; Part number NEMS: 100300414; Pad Count: 2; Note: -55°C ~ 125°C; Artikkelnr Noca: N.A.; Component Status: Active; Component Class: Inductors; Author: rubr; ComponentLink1URL: https://search.murata.co.jp/Ceramy/image/img/P02/JELF243A-0026.pdf; ComponentLink1Description: Datasheet; ComponentLink2URL: N.A.; ComponentLink2Description: Supplier link; HelpURL: https://psearch.en.murata.com/inductor/product/LQW18AN12NG10%23.html; Footprint Doc: 0603; LatestRevisionDate: 2022-02-17; Published: 2022-02-17; Value: 12nH; Supplier 1: Digi-Key; Supplier Part Number 1: 490-6862-1-ND; Supplier 2: Mouser; Supplier Part Number 2: 81-LQW18AN12NG10D; Part number IPS: N.A.; Part number Norautron: N.A.; PartId: 100300414
footprint 0603_C
pins: 1, 2

## L0603-470n-1600mA-69mOhm-MCFK1608TR47M
designator L?, comment 470nH
Inductor, Irms=1.6A, Isat=1.9A, ±20%, DCR=69mΩ; Part Number: L0603-470n-1600mA-69mOhm-MCFK1608TR47M; Manufacturer: Taiyo Yuden; Manufacturer Part Number: MCFK1608TR47M; Part number NEMS: 100300402; Pad Count: 2; Component Status: Active; Note: -40°C ~ 125°C; Artikkelnr Noca: N.A.; Component Class: Inductors; Author: getr; Footprint Doc: 0603; Value: 470nH; PartId: 100300402; ComponentLink1URL: https://ds.yuden.co.jp/TYCOMPAS/ut/detail?pn=MCFK1608TR47M%20&u=M; ComponentLink1Description: Datasheet; ComponentLink2URL: https://www.digikey.com/en/products/detail/taiyo-yuden/MCFK1608TR47M/7100391?s=N4IgTCBcDaILIGEBiBpAjANgAwA4AqASgCwDscIAugL5A; ComponentLink2Description: Supplier link; HelpURL: https://ds.yuden.co.jp/TYCOMPAS/ut/detail?pn=MCFK1608TR47M&u=M; LatestRevisionDate: 2022-09-07; Published: 2021-04-06; Supplier 1: Digi-Key; Supplier Part Number 1: 587-5625-1-ND; Supplier 2: N.A.; Supplier Part Number 2: N.A.; Part number IPS: N.A.; Part number Norautron: N.A.
footprint INDC1608X06L
pins: 1, 2

## L0603-N.C.
designator Z?, comment N.C.
Not mounted; Part Number: L0603-N.C.; Manufacturer: N.A.; Part number NEMS: 100300069; Pad Count: 2; Assembly: Not mounted; Component Status: Active; PartId: 100300069; Component Class: Inductors; Author: rsk; Manufacturer Part Number: N.A.; ComponentLink1URL: N.A.; ComponentLink1Description: Datasheet; ComponentLink2URL: N.A.; ComponentLink2Description: Supplier link; HelpURL: N.A.; Footprint Doc: 0603; LatestRevisionDate: 2016-11-24; Published: 2016-11-24; Value: N.C.; Note: N.A.; Supplier 1: N.A.; Supplier Part Number 1: N.A.; Supplier 2: N.A.; Supplier Part Number 2: N.A.; Artikkelnr Noca: N.A.; Part number IPS: N.A.; Part number Norautron: N.A.
footprint INDC1608X06L_NC
footprint C1608X06L-C1005X04M (Chip Capacitor, 2-Leads, Body 1.6x0.8mm, IPC High Density)
pins: 1, 2

## L0806-2µ2-2500mA-73mOhm-CIGT201610EH2R2MNE
designator L?, comment 2.2µH
Inductor, Irms=2.5A, Isat=2.9A, ±20%, DCR=73mΩ; Part Number: L0806-2µ2-2500mA-73mOhm-CIGT201610EH2R2MNE; Manufacturer: Samsung Electro-Mechanics America; Manufacturer Part Number: CIGT201610EH2R2MNE; Part number Norautron: 26521789; Part number NEMS: 100300400; Pad Count: 2; Component Status: Active; Note: Unshielded Thin Film Inductor; Artikkelnr Noca: N.A.; Component Class: Inductors; Author: rsk; Footprint Doc: 0806; Value: 2.2µH; PartId: 100300400; ComponentLink1URL: https://media.digikey.com/pdf/Data%20Sheets/Samsung%20PDFs/CIGT201610EH2R2MNE_Spec.pdf; ComponentLink1Description: Datasheet; ComponentLink2URL: https://www.digikey.com/en/products/detail/samsung-electro-mechanics/CIGT201610EH2R2MNE/7041223?s=N4IgTCBcDaIMIEkDiAVMAGAjANk%2BgogBJgBKYAsgHL4gC6AvkA; ComponentLink2Description: Supplier link; HelpURL: http://product.samsungsem.com/pi/CIGT201610EH2R2MN.do; LatestRevisionDate: 2022-09-07; Published: 2021-02-03; Supplier 1: Digi-Key; Supplier Part Number 1: 1276-6901-1-ND; Supplier 2: Mouser; Supplier Part Number 2: 187-CIGT201610EH2R2M; Part number IPS: N.A.
footprint INDC2016X10N
pins: 1, 2

## L1008-3µ3-LQM2HPN3R3MGCL
designator L?, comment 3.3µH
Inductor, 1A, ±20%, 200mOhm; Part Number: L1008-3µ3-LQM2HPN3R3MGCL; Manufacturer: Murata; Manufacturer Part Number: LQM2HPN3R3MGCL; Part number NEMS: 100300406; Pad Count: 2; Note: -55°C ~ 125°C; Artikkelnr Noca: N.A.; Component Status: Active; Component Class: Inductors; Author: prbu; ComponentLink1URL: https://www.murata.com/en-sg/products/productdetail?partno=LQM2HPN3R3MGC%23; ComponentLink1Description: Datasheet; ComponentLink2URL: https://www.digikey.com/en/products/detail/murata-electronics/LQM2HPN3R3MGCL/4359129?s=N4IgTCBcDaIDIEUCyYASAFAcgZgEraQHEBhOEAXQF8g; ComponentLink2Description: Supplier link; HelpURL: https://www.murata.com/en-sg/products/productdetail?partno=LQM2HPN3R3MGC%23; Footprint Doc: 1008; LatestRevisionDate: 2022-01-20; Published: 2022-01-20; Value: 3.3µH; Supplier 1: Digi-Key; Supplier Part Number 1: 490-12070-1-ND; Supplier 2: N.A.; Supplier Part Number 2: N.A.; Part number IPS: N.A.; Part number Norautron: N.A.; PartId: 100300406
footprint INDC2520X10N
pins: 1, 2

## L-KLS7-TS5401A-1.35-250-T
designator SW?
Microminiature SMT Switch, Side Actuated; Manufacturer: Cabcon; Part number NEMS: 101500149; Pad Count: 4; Note: Tactile Switch, SPST, SMD, 220gf; Artikkelnr Noca: N.A.; Component Status: Active; Part Number: L-KLS7-TS5401A-1.35-250-T; Component Class: Switches; Author: getr; Manufacturer Part Number: L-KLS7-TS5401A-1.35-250-T; ComponentLink1URL: N.A.; ComponentLink1Description: Datasheet; ComponentLink2URL: N.A.; ComponentLink2Description: Supplier link; HelpURL: N.A.; Footprint Doc: L-KLS7-TS5401A-1.35-250-T; LatestRevisionDate: 2024-08-08; Published: 2024-08-08; Value: L-KLS7-TS5401A-1.35-250-T; Supplier 1: Cabcon; Supplier Part Number 1: L-KLS7-TS5401A-1.35-250-T; Supplier 2: N.A.; Supplier Part Number 2: N.A.; Part number IPS: N.A.; Part number Norautron: N.A.; PartId: 101500149
footprint L-KLS7-TS5401A-1.35-250-T
pins: 1 N.O, 2 COM

## L-KLS7-TS6616B-2.5-160-T
designator SW?, comment PB SW
Tactile Switch, SPNO, SMD, 160gf, 6.2x6.4x2.5mm; Part Number: L-KLS7-TS6616B-2.5-160-T; Manufacturer: KLS; Part number NEMS: 101500133, 101500001; Note: N.A.; Pad Count: 4; Component Status: Active; Manufacturer Part Number: L-KLS7-TS6616B-2.5-160-T; Footprint Doc: L-KLS7-TS6616B-2.5-160-T; LatestRevisionDate: 2021-07-02; Published: 2021-07-02; Value: PB SW; Artikkelnr Noca: N.A.; Part number IPS: N.A.; ComponentLink1URL: N.A.; ComponentLink1Description: Datasheet; ComponentLink2URL: N.A.; ComponentLink2Description: Supplier link; HelpURL: \\hizz\pro\app9717\Datasheet\switches\KLS\L-KLS7-TS6616B-2.5-160-T.pdf; Supplier 1: Cabcon; Supplier Part Number 1: L-KLS7-TS6616B-2.5-160-T; Supplier 2: N.A.; Supplier Part Number 2: N.A.; Author: masi; Component Class: Switches; PartId: 101500133; Part number Norautron: N.A.
footprint L-KLS7-TS6616B-2.5-160-T
pins: 1 N.O, 2 COM

## L-KLS12-TL345-G/Y-03
designator J?
Manufacturer: KLS; Manufacturer Part Number: L-KLS12-TL345-G/Y-03; Supplier 1: OZDISAN
footprint L-KLS12-TL345-G/Y-03 (Connector, 12-Leads, Body 17.27x15.75mm, Pitch 1.016mm)
footprint L-KLS12-TL345-G/Y-03_1 (Connector, 12-Leads, Body 17.27x15.75mm, Pitch 1.016mm)
pins: 1 TD+, 2 CT, 3 TD-, 4 RD+, 5 CT, 6 RD-, 7, 8 GND, 9, 10, 11, 12, S1, S2

## Label_12x38
designator LABEL?, comment 12x38mm  (value not drawn)
PCA version label, stick-on, 12x38mm; Part Number: Label_12x38; Manufacturer: Ellco Etikett; Manufacturer Part Number: 83019; Part number NEMS: 101200031; Component Status: Active; Pad Count: 0; Note: N.A.; Component Class: Mechanicals; Author: getr; ComponentLink1URL: N.A.; ComponentLink1Description: Datasheet; ComponentLink2URL: N.A.; ComponentLink2Description: Supplier link; HelpURL: N.A.; LatestRevisionDate: 2023-08-02; Published: 2023-08-02; Footprint Doc: Label; Value: 12x38mm; Supplier 1: N.A.; Supplier Part Number 1: N.A.; Supplier 2: N.A.; Supplier Part Number 2: N.A.; Artikkelnr Noca: N.A.; Part number IPS: N.A.; Part number Norautron: N.A.; PartId: 101200031
footprint LabelSilk_12x38
text: <year>.<week>; <UID>

## Led
designator LED?, comment LED
Red 640nm LED Indication - Discrete 2.1V Radial; MPN: XLM2MR12D; MF: SunLED; Value: LED RED DIFF 5MM ROUND T-H; Package: Radial; Digi-Key Part Number: XLM2MR12D-ND; Price: 0.16560
footprint 0603_LED
footprint 0805_LED
pins: A, C

## LFD182G45DCJD247
designator F?, comment LFD_Diplexer
Signal Conditioning 2.4GHz and 5GHz Diplexer; Part Number: LFD182G45DCJD247; Manufacturer: Murata; Part number NEMS: 100800026; Pad Count: 6; Value: LFD182G45DCJD247; Note: N.A.; Component Status: Active; Component Class: Filters; Author: hany; Manufacturer Part Number: LFD182G45DCJD247; ComponentLink1URL: https://no.mouser.com/datasheet/2/281/1/LFD182G45DCJD247-2399435.pdf; ComponentLink1Description: Datasheet; ComponentLink2URL: N.A.; ComponentLink2Description: Supplier link; HelpURL: N.A.; Footprint Doc: CAF; LatestRevisionDate: 2021-10-06; Published: 2021-10-06; Supplier 1: Mouser; Supplier Part Number 1: 81-LFD182G45DCJD247; Supplier 2: N.A.; Supplier Part Number 2: N.A.; Artikkelnr Noca: N.A.; Part number IPS: N.A.; Part number Norautron: N.A.; PartId: 100800026
footprint CAF-50P160X80-6N
pins: 1 2.4G (io), 2 GND (power), 3 5G (io), 5 GND (power), 6 COM (io), 7 GND (power)

## LIS2MDLTR
designator U
Magnetoresistive Sensor X, Y, Z Axis 12-LGA _2x2_; MP: LIS2MDLTR; MF: STMicroelectronics; Value: *; SnapEDA_Link: https://www.snapeda.com/parts/LIS2MDLTR/STMicroelectronics/view-part/839420/?ref=snap; Package: WFLGA-12 STMicroelectronics; Digi-Key_Part_Number: 497-17588-1-ND; Digi-Key_Purchase_URL: https://www.digikey.com/product-detail/en/stmicroelectronics/LIS2MDLTR/497-17588-1-ND/7565512?utm_source=snapeda&utm_medium=aggregator&utm_campaign=symbol
footprint PQFN50P200X200X70-12N
pins: 1 SCL/SPC (in), 2 NC1, 3 CS (in), 4 SDA/SDI/SDO (io), 5 C1, 6 GND (power), 7 INT/DRDY/SDO (io), 8 GND (power), 9 VDD (power), 10 VDD_IO (power), 11 NC2, 12 NC3

## LM339DR
designator U?, comment Manufacturer Part Number: LM339DR  (hidden comment: IC COMPARATOR 4 DIFF 14SOIC)
Comparator Differential Open-Collector, Rail-to-Rail 14-SOIC
footprint Texas_Instruments_D0014A_IPC_A
part A pins: 1 1OUT (out), 3 VCC (power), 6 1IN- (in), 7 1IN+ (in), 12 GND (power)
part B pins: 2 2OUT (out), 4 2IN- (in), 5 2IN+ (in)
part C pins: 8 3IN- (in), 9 3IN+ (in), 14 OUT3 (out)
part D pins: 10 4IN- (in), 11 4IN+ (in), 13 OUT4 (out)
part A text: +; -
part B text: +; -
part C text: +; -
part D text: +; -

## LM339DR_1
designator U?, comment Manufacturer Part Number: LM339DR  (hidden comment: IC COMPARATOR 4 DIFF 14SOIC)
Comparator Differential Open-Collector, Rail-to-Rail 14-SOIC
footprint Texas_Instruments_D0014A_IPC_A
part A pins: 1 1OUT (out), 3 VCC (power), 6 1IN- (in), 7 1IN+ (in), 12 GND (power)
part B pins: 2 2OUT (out), 4 2IN- (in), 5 2IN+ (in)
part C pins: 8 3IN- (in), 9 3IN+ (in), 14 OUT3 (out)
part D pins: 10 4IN- (in), 11 4IN+ (in), 13 OUT4 (out)
part A text: +; -
part B text: +; -
part C text: +; -
part D text: +; -

## LM2576-5.0WU
designator U?
Buck Switching Regulator IC Positive Fixed 5V 1 Output 3A TO-263-6, D2PAK (5 Leads + Tab), TO-263BA; MF: Microchip; MP: LM2576-5.0WU; SnapEDA_Link: https://www.snapeda.com/parts/LM2576-5.0WU/Microchip/view-part/?ref=snap; Package: TO-263-5 Micrel; Value: *; Check_prices: https://www.snapeda.com/parts/LM2576-5.0WU/Microchip/view-part/?ref=eda
footprint DPAK6P170_1524X459L254X81N
pins: 1 VIN (in), 2 OUTPUT (out), 3 GROUND (power), 4 FEEDBACK (io), 5 ~{ON}/OFF (in), 6 GROUND (power)

## LPS22HBTR
designator A?
Pressure Sensor 3.77PSI ~ 18.27PSI (26kPa ~ 126kPa) Absolute 24 b 10-WFLGA Exposed Pad; MP: LPS22HBTR; MF: STMicroelectronics; SnapEDA_Link: https://www.snapeda.com/parts/LPS22HBTR/STMicroelectronics/view-part/?ref=snap; Package: WFLGA-10 STMicroelectronics; Check_prices: https://www.snapeda.com/parts/LPS22HBTR/STMicroelectronics/view-part/?ref=eda; Purchase-URL: https://pricing.snapeda.com/search/part/LPS22HBTR/?ref=eda; Price: None; Value: *; Availability: In Stock
footprint PQFN50P200X200X80-10N
pins: 1 VDD_IO (power), 2 SCL/SPC (in), 3 RESERVED, 4 SDA/SDI/SDO (io), 5 SDO/SA0 (io), 6 CS (in), 7 INT_DRDY (out), 8 GND (power), 9 GND (power), 10 VDD (power)

## LTC4368HMS-2#PBF
designator U?, comment P/N: LTC4368HMS-2#WPBF  (hidden comment: ADJ)
IC SURGE SUPPRESSION ADJ 10MSOP; Order Code: DIGI :  161-LTC4368HMS-2#WPBF-ND; Value: ADJ
footprint MSOP10 (10-TFSOP, 10-MSOP (0.118", 3.00mm Width))
pins: 1 VIN, 2 UV, 3 OV, 4 RETRY, 5 GND, 6 ~{SHDN}, 7 ~{FAULT}, 8 VOUT, 9 SENSE, 10 GATE

## LTC4368HMS-2#PBF_1
designator U?, comment P/N: LTC4368HMS-2#WPBF  (hidden comment: ADJ)
IC SURGE SUPPRESSION ADJ 10MSOP; Order Code: DIGI :  161-LTC4368HMS-2#WPBF-ND; Value: ADJ
footprint MSOP10 (10-TFSOP, 10-MSOP (0.118", 3.00mm Width))
pins: 1 VIN, 2 UV, 3 OV, 4 RETRY, 5 GND, 6 ~{SHDN}, 7 ~{FAULT}, 8 VOUT, 9 SENSE, 10 GATE

## LTC4368HMS-2#PBF_2
designator U?, comment P/N: LTC4368HMS-2#WPBF  (hidden comment: ADJ)
IC SURGE SUPPRESSION ADJ 10MSOP; Order Code: DIGI :  161-LTC4368HMS-2#WPBF-ND; Value: ADJ
footprint MSOP10 (10-TFSOP, 10-MSOP (0.118", 3.00mm Width))
pins: 1 VIN, 2 UV, 3 OV, 4 RETRY, 5 GND, 6 ~{SHDN}, 7 ~{FAULT}, 8 VOUT, 9 SENSE, 10 GATE

## LTST-C19HE1WT
designator LED?, comment LED RGB
RGB LED 1.60 mm x 1.60 mm SMD; Part Number: LTST-C19HE1WT; Manufacturer: LITEON; Part number IPS: 00000007798; Part number NEMS: 101400093; Note: N.A.; Pad Count: 4; Component Status: Active; Manufacturer Part Number: LTST-C19HE1WT; LatestRevisionDate: 2016-09-23; Published: 2016-09-23; Value: LED RGB; Artikkelnr Noca: N.A.; Footprint Doc: LED_RGB_0606; ComponentLink1URL: N.A.; ComponentLink1Description: Datasheet; ComponentLink2URL: N.A.; ComponentLink2Description: Supplier link; HelpURL: http://optoelectronics.liteon.com/upload/download/DS22-2008-0044/S_110_LTST-C19HE1WT.pdf; Supplier 1: Digi-Key; Supplier Part Number 1: 160-2162-1-ND; Supplier 2: Mouser; Supplier Part Number 2: 859-LTST-C19HE1WT; Author: rsk; Component Class: Optoelectronics; PartId: 101400093; Part number Norautron: N.A.
footprint LED_RGB_0606
pins: 1 C_RED, 2 C_GREEN, 3 C_BLUE, 4 A
text: R; G; B

## LTST-C190KGKT
designator D?, comment Manufacturer Part Number: LTST-C193KRKT-5A  (hidden comment: LED GREEN CLEAR CHIP SMD)
Green 571nm LED Indication - Discrete 2V 0603 (1608 Metric); Manufacturer: Lite-On Inc.; Order Code: Digi: 160-1830-2-ND; LCSC Part Number: C125094; LCSC Manufacturer Part Number: LTST-C193KRKT-5A
footprint Lite-On_0_MFG_GREEN
pins: 1 C, 2 A

## LTST-C190KGKT_1
designator D?, comment Manufacturer Part Number: LTST-C193KRKT-5A  (hidden comment: LED GREEN CLEAR CHIP SMD)
Green 571nm LED Indication - Discrete 2V 0603 (1608 Metric); Manufacturer: Lite-On Inc.; Order Code: Digi: 160-1830-2-ND; LCSC Part Number: C125094; LCSC Manufacturer Part Number: LTST-C193KRKT-5A
footprint Lite-On_0_MFG_GREEN
pins: 1 C, 2 A

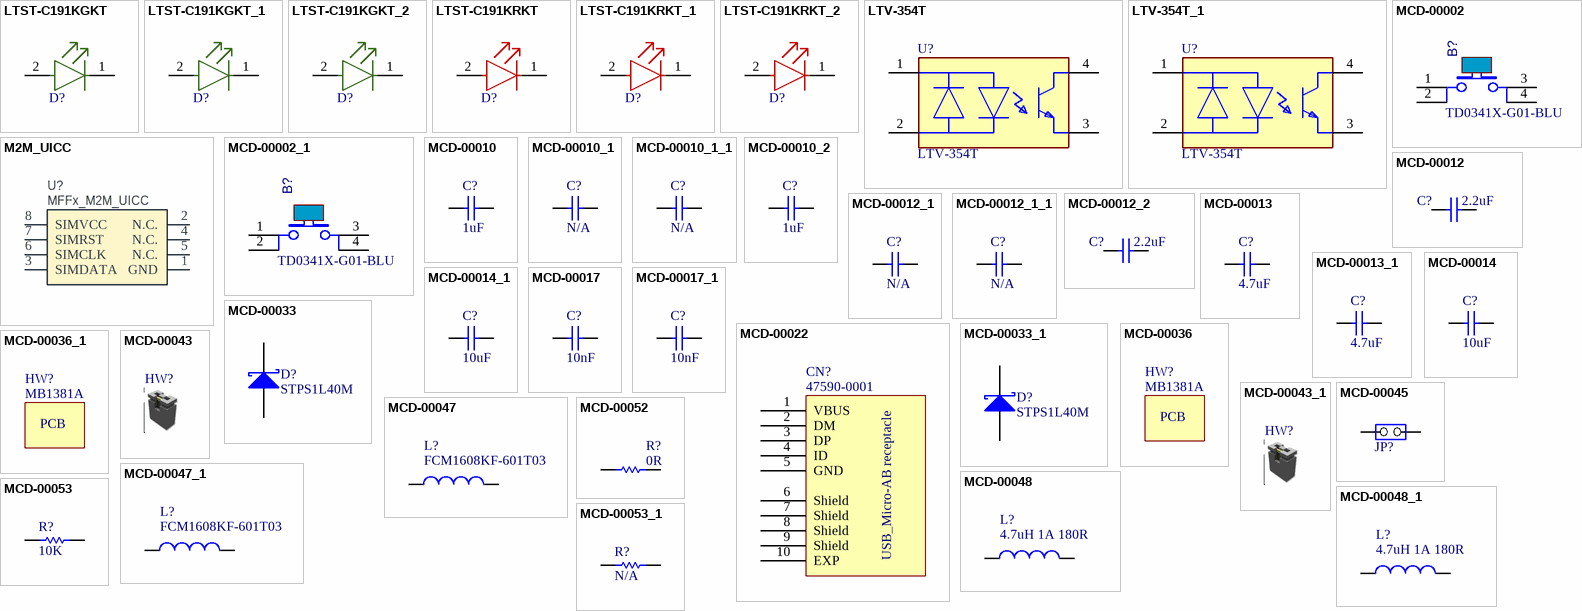
[diagram p16: symbols LTST-C191KGKT to MCD-00053_1]

## LTST-C191KGKT
designator D?, comment LED GREEN CLEAR SMD  (value not drawn)
Green 571nm LED Indication - Discrete 2V 0603 (1608 Metric); Manufacturer Part Number: LTST-C191KGKT; Order Code: Digi: 160-1446-2-ND; LCSC Manufacturer Part Number: LTST-C191KGKT; LCSC Part Number: C125098
footprint Lite-On_GREEN_MFG
pins: 1 C, 2 A

## LTST-C191KGKT_1
designator D?, comment LED GREEN CLEAR SMD  (value not drawn)
Green 571nm LED Indication - Discrete 2V 0603 (1608 Metric); Manufacturer Part Number: LTST-C191KGKT; Order Code: Digi: 160-1446-2-ND; LCSC Manufacturer Part Number: LTST-C191KGKT; LCSC Part Number: C125098
footprint Lite-On_GREEN_MFG
pins: 1 C, 2 A

## LTST-C191KGKT_2
designator D?, comment LED GREEN CLEAR SMD  (value not drawn)
Green 571nm LED Indication - Discrete 2V 0603 (1608 Metric); Manufacturer Part Number: LTST-C191KGKT; Order Code: Digi: 160-1446-2-ND; LCSC Manufacturer Part Number: LTST-C191KGKT; LCSC Part Number: C125098
footprint Lite-On_GREEN_MFG
pins: 1 C, 2 A

## LTST-C191KRKT
designator D?, comment LED RED CLEAR SMD  (value not drawn)
Red 631nm LED Indication - Discrete 2V 0603 (1608 Metric); Manufacturer Part Number: LTST-C191KRKT; Order Code: Digi: 160-1447-2-ND; LCSC Manufacturer Part Number: LTST-C191KRKT; LCSC Part Number: C125099
footprint Lite-On_0_MFG
pins: 1 C, 2 A

## LTST-C191KRKT_1
designator D?, comment LED RED CLEAR SMD  (value not drawn)
Red 631nm LED Indication - Discrete 2V 0603 (1608 Metric); Manufacturer Part Number: LTST-C191KRKT; Order Code: Digi: 160-1447-2-ND; LCSC Manufacturer Part Number: LTST-C191KRKT; LCSC Part Number: C125099
footprint Lite-On_0_MFG
pins: 1 C, 2 A

## LTST-C191KRKT_2
designator D?, comment LED RED CLEAR SMD  (value not drawn)
Red 631nm LED Indication - Discrete 2V 0603 (1608 Metric); Manufacturer Part Number: LTST-C191KRKT; Order Code: Digi: 160-1447-2-ND; LCSC Manufacturer Part Number: LTST-C191KRKT; LCSC Part Number: C125099
footprint Lite-On_0_MFG
pins: 1 C, 2 A

## LTV-354T
designator U?, comment Manufacturer Part Number: LTV-354T  (hidden comment: OPTOISOLATOR 3.75KV TRANS 4-SOP)
Optoisolator Transistor Output 3750Vrms 1 Channel 4-SOP; Order Code: Digi: 160-1333-2-ND; LCSC Manufacturer Part Number: LTV-354T; LCSC Part Number: C119090
footprint Lite-On_LTV-354T_0
pins: 1 Anode/Cathode, 2 Cathode/Anode, 3 E, 4 C

## LTV-354T_1
designator U?, comment Manufacturer Part Number: LTV-354T  (hidden comment: OPTOISOLATOR 3.75KV TRANS 4-SOP)
Optoisolator Transistor Output 3750Vrms 1 Channel 4-SOP; Order Code: Digi: 160-1333-2-ND; LCSC Manufacturer Part Number: LTV-354T; LCSC Part Number: C119090
footprint Lite-On_LTV-354T_0
pins: 1 Anode/Cathode, 2 Cathode/Anode, 3 E, 4 C

## M2M_UICC
designator U?, comment MFFx_M2M_UICC
M2M UICC SIM Card; Manufacturer: N.A.; Part number NEMS: 101900595; Pad Count: 8; Component Status: Active; Part Number: M2M_UICC; Manufacturer Part Number: N.A.; ComponentLink1URL: N.A.; ComponentLink1Description: Datasheet; ComponentLink2URL: N.A.; ComponentLink2Description: Supplier link; HelpURL: N.A.; Footprint Doc: SON-8; LatestRevisionDate: 2019-10-22; Published: 2019-10-22; Value: M2M UICC; Note: N.A.; Supplier 1: N.A.; Supplier Part Number 1: N.A.; Supplier 2: N.A.; Supplier Part Number 2: N.A.; Artikkelnr Noca: N.A.; Part number IPS: N.A.; Author: rsk; Component Class: Misc_ICs; PartId: 101900595; Part number Norautron: N.A.
footprint SON127P600X90_HS-8N
pins: 1 GND, 2 N.C., 3 SIMDATA, 4 N.C., 5 N.C., 6 SIMCLK, 7 SIMRST, 8 SIMVCC

## MCD-00002
designator B?, comment Manufacturer_Part_Number: TD0341X-G01-BLU  (hidden comment: SW-PUSH-CMS_BLUE)
Non-Open Push-Button 0.1A 24V BLUE; Internal_Part_Number: MCD-00002; Part_Type: Misc; Manufacturer: WEALTHMETAL; Value: SW_BLUE; Provided_By: Subcon; Initial_Board_Reference: MB1274; Status: Released; ComponentLink1Description: Datasheet; ComponentLink1URL: http://tunmcdsvn.tun.st.com/Component_Datasheet_Library/Trunk/Misc/Wealthmetal_Tact-Switch_TD0341; Order_Code_Farnell: 535-930
footprint SWI_WEALTHMETAL_TD-0341_4P_BLUE
pins: 1, 2, 3, 4

## MCD-00002_1
designator B?, comment Manufacturer_Part_Number: TD0341X-G01-BLU  (hidden comment: SW-PUSH-CMS_BLUE)
Non-Open Push-Button 0.1A 24V BLUE; Internal_Part_Number: MCD-00002; Part_Type: Misc; Manufacturer: WEALTHMETAL; Value: SW_BLUE; Provided_By: Subcon; Initial_Board_Reference: MB1274; Status: Released; ComponentLink1Description: Datasheet; ComponentLink1URL: http://tunmcdsvn.tun.st.com/Component_Datasheet_Library/Trunk/Misc/Wealthmetal_Tact-Switch_TD0341; Order_Code_Farnell: 535-930
footprint SWI_WEALTHMETAL_TD-0341_4P_BLUE
pins: 1, 2, 3, 4

## MCD-00010
designator C?, comment value 1uF  (hidden comment: Capacitor)
Capacitor, MLCC, 1uF, 16V, X5R, 10%, 0603, T=0,8mm; Internal_Part_Number: MCD-00010; Manufacturer_Part_Number: CC0603KRX5R7BB105; Manufacturer: YAGEO; Provided_By: Subcon; Initial_Board_Reference: mb1274; Status: Released; Part_Type: Capacitor; Package: C0603; ComponentLink1Description: Yageo_Capacitor_X5R-series.pdf; ComponentLink1URL: http://tunmcdsvn.tun.st.com/Component_Datasheet_Library/Trunk/Capacitors/Yageo_Capacitor_X5R-series.pdf; ECCN_US: n/a; ECCN_EU: n/a
footprint C0603
pins: 1, 2

## MCD-00010_1
designator C?, comment N/A
Capacitor, MLCC, 1uF, 16V, X5R, 10%, 0603, T=0,8mm; Internal_Part_Number: MCD-00010; Manufacturer_Part_Number: CC0603KRX5R7BB105; Manufacturer: YAGEO; Provided_By: Subcon; Initial_Board_Reference: mb1274; Value: 1uF; Status: Released; Part_Type: Capacitor; Package: C0603; ComponentLink1Description: Yageo_Capacitor_X5R-series.pdf; ComponentLink1URL: http://tunmcdsvn.tun.st.com/Component_Datasheet_Library/Trunk/Capacitors/Yageo_Capacitor_X5R-series.pdf; ECCN_US: n/a; ECCN_EU: n/a
footprint C0603
pins: 1, 2

## MCD-00010_1_1
designator C?, comment N/A
Capacitor, MLCC, 1uF, 16V, X5R, 10%, 0603, T=0,8mm; Internal_Part_Number: MCD-00010; Manufacturer_Part_Number: CC0603KRX5R7BB105; Manufacturer: YAGEO; Provided_By: Subcon; Initial_Board_Reference: mb1274; Value: 1uF; Status: Released; Part_Type: Capacitor; Package: C0603; ComponentLink1Description: Yageo_Capacitor_X5R-series.pdf; ComponentLink1URL: http://tunmcdsvn.tun.st.com/Component_Datasheet_Library/Trunk/Capacitors/Yageo_Capacitor_X5R-series.pdf; ECCN_US: n/a; ECCN_EU: n/a
footprint C0603
pins: 1, 2

## MCD-00010_2
designator C?, comment value 1uF  (hidden comment: Capacitor)
Capacitor, MLCC, 1uF, 16V, X5R, 10%, 0603, T=0,8mm; Internal_Part_Number: MCD-00010; Manufacturer_Part_Number: CC0603KRX5R7BB105; Manufacturer: YAGEO; Provided_By: Subcon; Initial_Board_Reference: mb1274; Status: Released; Part_Type: Capacitor; Package: C0603; ComponentLink1Description: Yageo_Capacitor_X5R-series.pdf; ComponentLink1URL: http://tunmcdsvn.tun.st.com/Component_Datasheet_Library/Trunk/Capacitors/Yageo_Capacitor_X5R-series.pdf; ECCN_US: n/a; ECCN_EU: n/a
footprint C0603
pins: 1, 2

## MCD-00012
designator C?, comment value 2.2uF  (hidden comment: Capacitor)
Capacitor, MLCC, 2.2uF, 10V, X5R, 10%, 0603, T=0,8mm; Internal_Part_Number: MCD-00012; Manufacturer_Part_Number: CC0603KRX5R6BB225; Manufacturer: YAGEO; Alternate_Manufacturer_Part_Number: C0603C225K8PACTU; Alternate_Manufacturer: KEMET; Provided_By: Subcon; Initial_Board_Reference: MB1274; Status: Released; Part_Type: Capacitor; Package: C0603; ComponentLink1Description: Yageo_Capacitor_X5R-series.pdf; ComponentLink1URL: http://tunmcdsvn.tun.st.com/Component_Datasheet_Library/Trunk/Capacitors/Yageo_Multilayer_capacitor_X5R_series_100pF_to_100uF; ECCN_US: n/a; ECCN_EU: n/a
footprint C0603
pins: 1, 2